# EAGLE library part NXP-PTN5150 (library usb-pd)
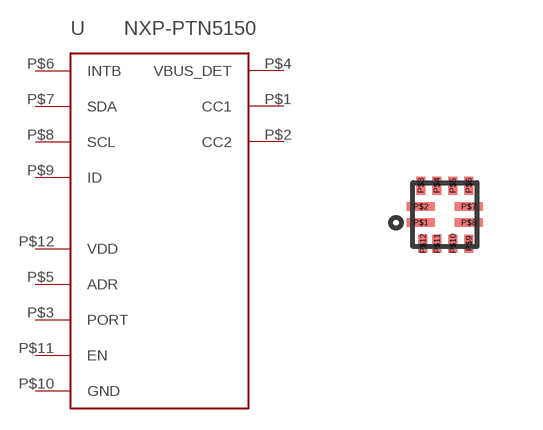
[diagram p0: symbol with the pads of X2QFN12; footprint X2QFN12]

Designator prefix -

## NXP-PTN5150  [X2QFN12]
P$1  CC1
P$2  CC2
P$3  PORT
P$4  VBUS_DET
P$5  ADR
P$6  INTB
P$7  SDA
P$8  SCL
P$9  ID
P$10  GND
P$11  EN
P$12  VDD

## Footprint X2QFN12 (pad centres in mm)
smd 0.7 x 0.22: P$1 -0.6,-0.2; P$2 -0.6,0.2; P$7 0.6,0.2; P$8 0.6,-0.2
smd 0.22 x 0.45: P$3 -0.6,0.725; P$4 -0.2,0.725; P$5 0.2,0.725; P$6 0.6,0.725; P$9 0.6,-0.725; P$10 0.2,-0.725; P$11 -0.2,-0.725; P$12 -0.55,-0.725